# EAGLE library part MAPLEMINI_BAITE (library stm32duino boards)
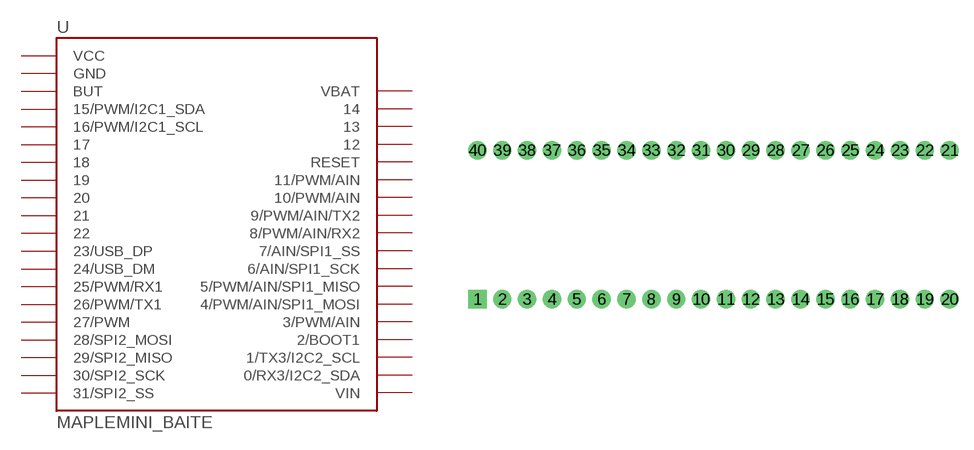
[diagram p3: symbol with the pads of MAPLEMINI_LEAF; footprint MAPLEMINI_LEAF]

Designator prefix -

## MAPLEMINI_BAITE  [MAPLEMINI_LEAF]
1  VCC
2  GND
3  BUT
4  15/PWM/I2C1_SDA
5  16/PWM/I2C1_SCL
6  17
7  18
8  19
9  20
10  21
11  22
12  23/USB_DP
13  24/USB_DM
14  25/PWM/RX1
15  26/PWM/TX1
16  27/PWM
17  28/SPI2_MOSI
18  29/SPI2_MISO
19  30/SPI2_SCK
20  31/SPI2_SS
21  VIN
22  0/RX3/I2C2_SDA
23  1/TX3/I2C2_SCL
24  2/BOOT1
25  3/PWM/AIN
26  4/PWM/AIN/SPI1_MOSI
27  5/PWM/AIN/SPI1_MISO
28  6/AIN/SPI1_SCK
29  7/AIN/SPI1_SS
30  8/PWM/AIN/RX2
31  9/PWM/AIN/TX2
32  10/PWM/AIN
33  11/PWM/AIN
34  RESET
35  12
36  13
37  14
38  VBAT
39  GND
40  VCC

## Footprint MAPLEMINI_LEAF (pad centres in mm)
drill 1.016 pad 1.88 square: 1 -24.13,-7.62
drill 1.016 pad 1.88: 2 -21.59,-7.62; 3 -19.05,-7.62; 4 -16.51,-7.62; 5 -13.97,-7.62; 6 -11.43,-7.62; 7 -8.89,-7.62; 8 -6.35,-7.62; 9 -3.81,-7.62; 10 -1.27,-7.62; 11 1.27,-7.62; 12 3.81,-7.62; 13 6.35,-7.62; 14 8.89,-7.62; 15 11.43,-7.62; 16 13.97,-7.62; 17 16.51,-7.62; 18 19.05,-7.62; 19 21.59,-7.62; 20 24.13,-7.62; 21 24.13,7.62; 22 21.59,7.62; 23 19.05,7.62; 24 16.51,7.62; 25 13.97,7.62; 26 11.43,7.62; 27 8.89,7.62; 28 6.35,7.62; 29 3.81,7.62; 30 1.27,7.62; 31 -1.27,7.62; 32 -3.81,7.62; 33 -6.35,7.62; 34 -8.89,7.62; 35 -11.43,7.62; 36 -13.97,7.62; 37 -16.51,7.62; 38 -19.05,7.62; 39 -21.59,7.62; 40 -24.13,7.62